# EAGLE library part RV-3049 (library UPRA_misc)
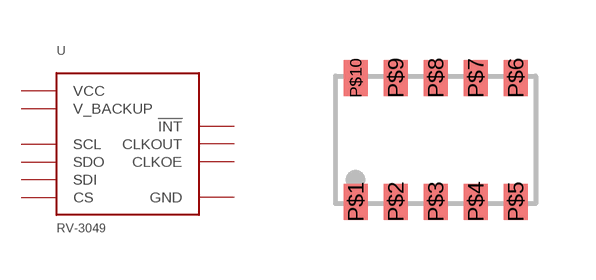
[diagram p1: symbol with the pads of RV-3049-C2; footprint RV-3049-C2]

Designator prefix U

## RV-3049-C2  [RV-3049-C2]
P$1  VCC
P$2  CLKOUT
P$3  CS
P$4  SCL
P$5  SDO
P$6  GND
P$7  !INT
P$8  V_BACKUP
P$9  SDI
P$10  CLKOE

## Footprint RV-3049-C2 (pad centres in mm)
smd 0.6 x 0.9: P$1 -2,-1.55; P$2 -1,-1.55; P$3 0,-1.55; P$4 1,-1.55; P$5 2,-1.55; P$6 2,1.55; P$7 1,1.55; P$8 0,1.55; P$9 -1,1.55; P$10 -2,1.55